# EAGLE library part PIC32-JTAG (library pinconn)
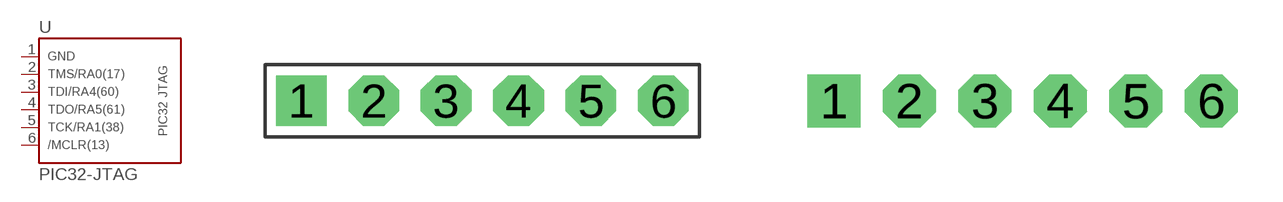
[diagram p3: symbol with the pads of CONN-6P; footprints CONN-6P, PIC32-JTAG]

Designator prefix -

## PIC32-JTAG-6P  [CONN-6P]
1  GND  pas
2  TMS  pas
3  TDI  pas
4  TDO  pas
5  TCK  pas
6  /MCLR  pas

## PIC32-JTAG  [PIC32-JTAG]
Pads as for CONN-6P

## PIC32-JTAG-6P-FEM  [CONN-6P-FEM]
Pads as for CONN-6P

## PIC32-JTAG-6P-FEM-90  [CONN-6P-FEM-90]
Pads as for CONN-6P

## Footprint CONN-6P (pad centres in mm)
drill 0.9 pad 1.778 square: 1 -6.35,0
drill 0.9 pad 1.778 octagon: 2 -3.81,0; 3 -1.27,0; 4 1.27,0; 5 3.81,0; 6 6.35,0

## Footprint PIC32-JTAG (pad centres in mm)
drill 0.8 pad 1.778 square: 1 -6.35,0
drill 0.8 pad 1.778 octagon: 2 -3.81,0; 3 -1.27,0; 4 1.27,0; 5 3.81,0; 6 6.35,0

## Footprint CONN-6P-FEM (pad centres in mm)
drill 0.813 long: 1 -6.35,0; 2 -3.81,0; 3 -1.27,0; 4 1.27,0; 5 3.81,0; 6 6.35,0

## Footprint CONN-6P-FEM-90 (pad centres in mm)
drill 0.9 pad 1.778 square: 1 -6.35,0
drill 0.9 pad 1.778 octagon: 2 -3.81,0; 3 -1.27,0; 4 1.27,0; 5 3.81,0; 6 6.35,0